# Altium schematic symbol library Common.SchLib: 18 symbols
Pins are listed as number, name and electrical type; pins without a type are passive.

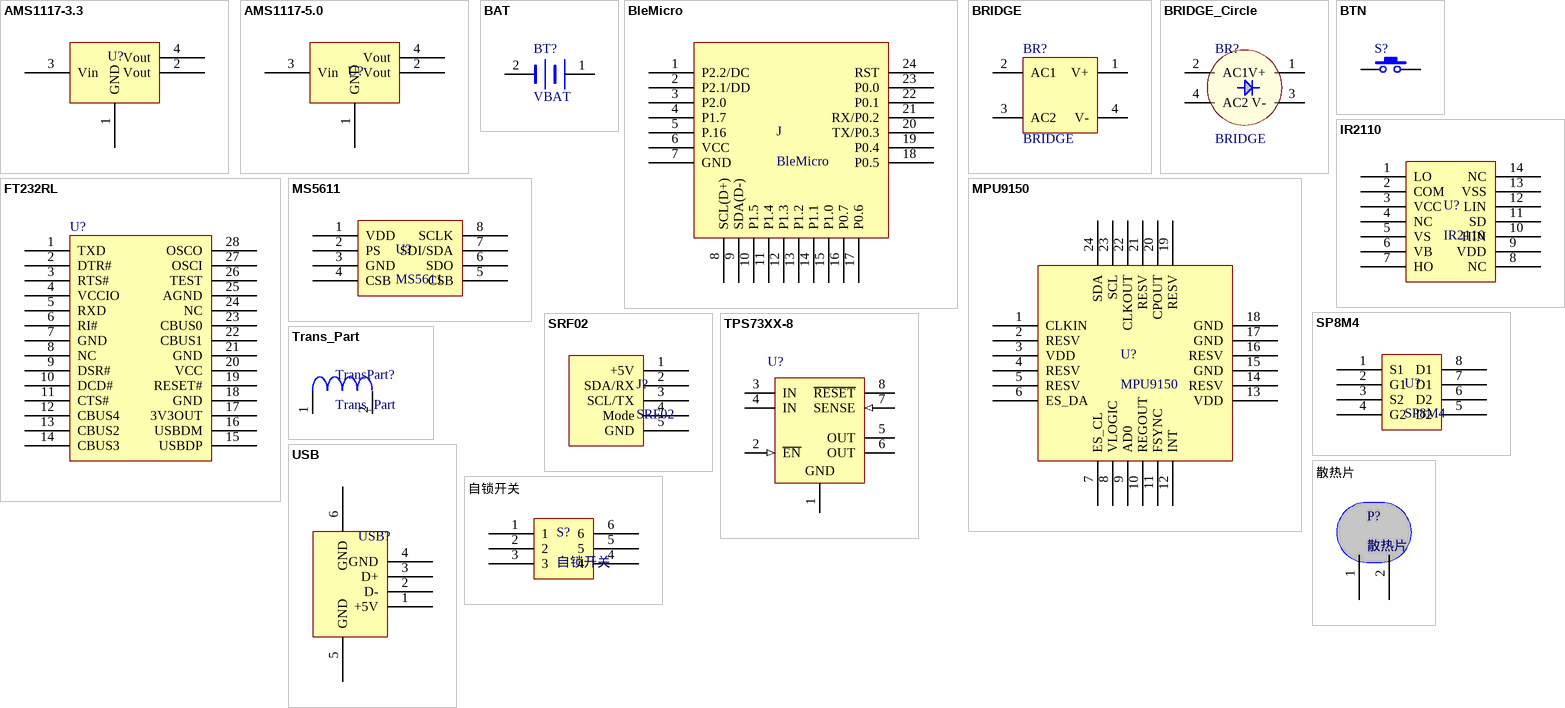
[diagram p0: symbols AMS1117-3.3 to 自锁开关]

## AMS1117-3.3
designator U?
AMS1117-3.3
footprint AMS1117-SOT223
pins: 1 GND, 2 Vout, 3 Vin, 4 Vout

## AMS1117-5.0
designator U?
AMS1117-5.0
footprint AMS1117-SOT223
pins: 1 GND, 2 Vout, 3 Vin, 4 Vout

## BAT
designator BT?, comment VBAT
Battery/VBAT
footprint BAT-SOT (贴片封装)
pins: 1 +, 2 -

## BleMicro
designator J
footprint BleMicro
pins: 1 P2.2/DC, 2 P2.1/DD, 3 P2.0, 4 P1.7, 5 P.16, 6 VCC, 7 GND, 8 SCL(D+), 9 SDA(D-), 10 P1.5, 11 P1.4, 12 P1.3, 13 P1.2, 14 P1.1, 15 P1.0, 16 P0.7, 17 P0.6, 18 P0.5, 19 P0.4, 20 TX/P0.3, 21 RX/P0.2, 22 P0.1, 23 P0.0, 24 RST

## BRIDGE
designator BR?
BR
footprint GBU4M
pins: 1 V+, 2 AC1, 3 AC2, 4 V-

## BRIDGE_Circle
designator BR?, comment BRIDGE
BR
footprint BR_CIRCLE
pins: 1 V+, 2 AC1, 3 V-, 4 AC2

## BTN
designator S?
Button; Published: 24-Mar-1999; LatestRevisionDate: 17-Jul-2002; LatestRevisionNote: Re-released for DXP Platform.; PackageReference: SPST-2; Publisher: Altium Limited
footprint SW-0606
footprint SW-SOT3*6
pins: 1, 2

## FT232RL
designator U?
FT232RL
footprint TSSOP-28
pins: 1 TXD, 2 DTR#, 3 RTS#, 4 VCCIO, 5 RXD, 6 RI#, 7 GND, 8 NC, 9 DSR#, 10 DCD#, 11 CTS#, 12 CBUS4, 13 CBUS2, 14 CBUS3, 15 USBDP, 16 USBDM, 17 3V3OUT, 18 GND, 19 RESET#, 20 VCC, 21 GND, 22 CBUS1, 23 CBUS0, 24 NC, 25 AGND, 26 TEST, 27 OSCI, 28 OSCO

## IR2110
designator U?
pins: 1 LO, 2 COM, 3 VCC, 4 NC, 5 VS, 6 VB, 7 HO, 8 NC, 9 VDD, 10 HIN, 11 SD, 12 LIN, 13 VSS, 14 NC

## MPU9150
designator U?
footprint LCC24
pins: 1 CLKIN, 2 RESV, 3 VDD, 4 RESV, 5 RESV, 6 ES_DA, 7 ES_CL, 8 VLOGIC, 9 AD0, 10 REGOUT, 11 FSYNC, 12 INT, 13 VDD, 14 RESV, 15 GND, 16 RESV, 17 GND, 18 GND, 19 RESV, 20 CPOUT, 21 RESV, 22 CLKOUT, 23 SCL, 24 SDA

## MS5611
designator U?
footprint LCC8
pins: 1 VDD, 2 PS, 3 GND, 4 CSB, 5 CSB, 6 SDO, 7 SDI/SDA, 8 SCLK

## SP8M4
designator U?
footprint TPS73XX-8 (SOIC, 8-Leads, Body 4.9x3.9mm, Pitch 1.27mm, IPC Medium Density)
pins: 1 S1, 2 G1, 3 S2, 4 G2, 5 D2, 6 D2, 7 D1, 8 D1

## SRF02
designator J?
footprint SRF02
pins: 1 +5V, 2 SDA/RX, 3 SCL/TX, 4 Mode, 5 GND

## TPS73XX-8
designator U?
footprint TPS73XX-8 (SOIC, 8-Leads, Body 4.9x3.9mm, Pitch 1.27mm, IPC Medium Density)
pins: 1 GND (power), 2 ~{EN} (in), 3 IN (power), 4 IN (power), 5 OUT (power), 6 OUT (power), 7 SENSE (in), 8 ~{RESET} (oc)

## Trans_Part
designator TransPart?
footprint Trans_Part (变压器单个绕组)
pins: 1, 2

## USB
designator USB?
USB
footprint MICROUSB_D2S6
footprint MICROUSB_NIUJIAO
footprint MICROUSB_S9
footprint MINIUSB_D7
footprint MINIUSB_S9
footprint CAPC_1206
footprint CAPC_1210
footprint CAPC_1812
footprint MICROUSB_D2S6
pins: 1 +5V, 2 D-, 3 D+, 4 GND, 5 GND, 6 GND

## 散热片
designator P?
footprint 散热器_TO247
pins: 1, 2

## 自锁开关
designator S?
footprint 自锁开关-5.8*5.8
pins: 1, 2, 3, 4, 5, 6